# Altium footprint library V2.3.PcbLib: 43 footprints (part 2 of 3)
Each footprint in its own frame and in the unit in brackets; x right, y up, seen from the top. Pads: shape width x height; smd on the part's side, far side on the other; paste and mask are expansions set on the pad; w line width, h text height; cw(c..) or ccw(c..) is an arc to the next point about the centre after c.
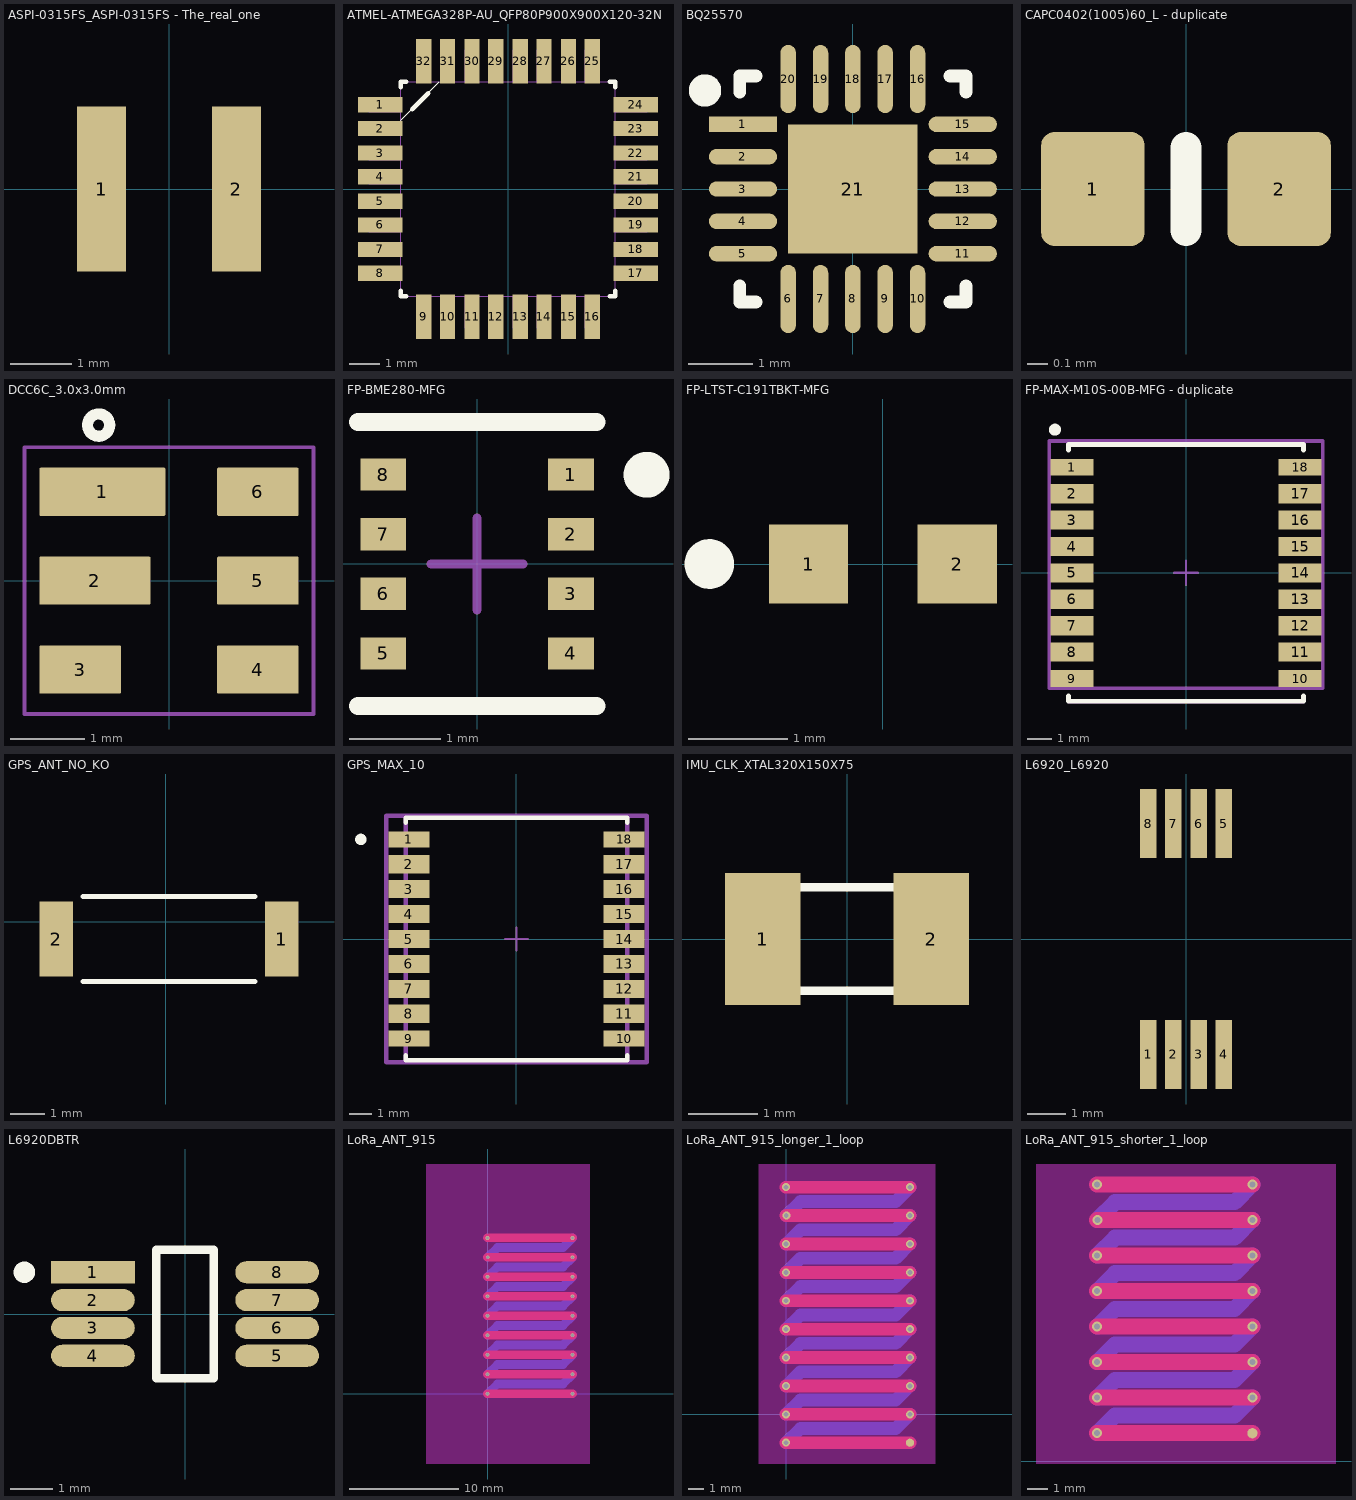
[diagram p1: the footprints below, top view; thin cyan lines are the x and y axes]

## ASPI-0315FS_ASPI-0315FS - The_real_one [mil]
pads (2):
  rect 31.5x106.3 smd: 1(-43.31,0) 2(43.31,0)
3D body "Inductor_L6920_ASPI-0315FS.STEP": height 29.53, standoff -29.53, extent -59.06,-59.06 59.06,59.06

## ATMEL-ATMEGA328P-AU_QFP80P900X900X120-32N [mil]
height 49.21
pads (32):
  rect 58x20 smd: 1(-167,110) 2(-167,79) 3(-167,47) 4(-167,16) 5(-167,-16) 6(-167,-47) 7(-167,-79) 8(-167,-110) 17(167,-110) 18(167,-79) 19(167,-47) 20(167,-16) 21(167,16) 22(167,47) 23(167,79) 24(167,110)
  rect 20x58 smd: 9(-110,-167) 10(-79,-167) 11(-47,-167) 12(-16,-167) 13(16,-167) 14(47,-167) 15(79,-167) 16(110,-167) 25(110,167) 26(79,167) 27(47,167) 28(16,167) 29(-16,167) 30(-47,167) 31(-79,167) 32(-110,167)
Top Overlay:
  lines w0: -140,90 -90,140
  lines w6: -140,-133 -140,-140 -133,-140 ; -140,133 -140,140 -133,140 ; -125,104 -104,125 ; 133,-140 140,-140 140,-133 ; 133,140 140,140 140,133
Top Courtyard:
  lines w0: -182,-119 -140,-119 -140,-101 -182,-101 -182,-119 ; -182,-88 -140,-88 -140,-70 -182,-70 -182,-88 ; -182,-56 -140,-56 -140,-38 -182,-38 -182,-56 ; -182,-25 -140,-25 -140,-7 -182,-7 -182,-25 ; -182,7 -140,7 -140,25 -182,25 -182,7 ; -182,38 -140,38 -140,56 -182,56 -182,38 ; -182,70 -140,70 -140,88 -182,88 -182,70 ; -182,101 -140,101 -140,119 -182,119 -182,101 ; -140,-140 -140,140 140,140 140,-140 -140,-140 ; -119,-182 -101,-182 -101,-140 -119,-140 -119,-182 ; -119,140 -119,182 -101,182 -101,140 -119,140 ; -88,-182 -70,-182 -70,-140 -88,-140 -88,-182 ; -88,140 -88,182 -70,182 -70,140 -88,140 ; -56,-182 -38,-182 -38,-140 -56,-140 -56,-182 ; -56,140 -56,182 -38,182 -38,140 -56,140 ; -25,-182 -7,-182 -7,-140 -25,-140 -25,-182 ; -25,140 -25,182 -7,182 -7,140 -25,140 ; 7,-182 25,-182 25,-140 7,-140 7,-182 ; 7,140 7,182 25,182 25,140 7,140 ; 38,-182 56,-182 56,-140 38,-140 38,-182 ; 38,140 38,182 56,182 56,140 38,140 ; 70,-182 88,-182 88,-140 70,-140 70,-182 ; 70,140 70,182 88,182 88,140 70,140 ; 101,-182 119,-182 119,-140 101,-140 101,-182 ; 101,140 101,182 119,182 119,140 101,140 ; 140,-119 182,-119 182,-101 140,-101 140,-119 ; 140,-88 182,-88 182,-70 140,-70 140,-88 ; 140,-56 182,-56 182,-38 140,-38 140,-56 ; 140,-25 182,-25 182,-7 140,-7 140,-25 ; 140,7 182,7 182,25 140,25 140,7 ; 140,38 182,38 182,56 140,56 140,38 ; 140,70 182,70 182,88 140,88 140,70 ; 140,101 182,101 182,119 140,119 140,101

## BQ25570 [mm] "BQ25570_CC"
pads (21):
  rect 1.057x0.239 smd paste+0 mask+0: 1(-1.701,1)
  rrect100% 1.057x0.239 smd paste+0 mask+0: 2(-1.701,0.5) 3(-1.701,0) 4(-1.701,-0.5) 5(-1.701,-1) 11(1.701,-1) 12(1.701,-0.5) 13(1.701,0) 14(1.701,0.5) 15(1.701,1)
  rrect100% 0.239x1.057 smd paste+0 mask+0: 6(-1,-1.701) 7(-0.5,-1.701) 8(0,-1.701) 9(0.5,-1.701) 10(1,-1.701) 16(1,1.701) 17(0.5,1.701) 18(0,1.701) 19(-0.5,1.701) 20(-1,1.701)
  rect 2x2 smd paste-1000 mask+0: 21(0,0)
Top Overlay:
  circle w0.25: c-2.286,1.524 r0.125
  lines w0.2: -1.75,-1.5 -1.75,-1.75 -1.5,-1.75 ; -1.75,1.5 -1.75,1.75 -1.5,1.75 ; 1.5,-1.75 1.75,-1.75 1.75,-1.5 ; 1.5,1.75 1.75,1.75 1.75,1.5
Top Paste:
  rectangle: -0.632,-0.632 0.632,0.632
Top Component Center:
  lines w0.1: -0.5,0 0.5,0 ; 0,-0.5 0,0.5
3D body "IC_Texas_Instruments_BQ25570RGRR_eec.STEP": height 0.25, standoff 0, extent -2.729,-2.729 2.729,2.729

## CAPC0402(1005)60_L - duplicate [mm] "Chip Capacitor, Body 1.0x0.5mm, Height 0.6mm, IPC High Density"
height 0.6
pads (2):
  rrect25% 0.5x0.55 smd: 1(-0.45,0) 2(0.45,0)
Top Overlay:
  lines w0.15: 0,-0.2 0,0.2

## DCC6C_3.0x3.0mm [mm] "DCC6C footprint, 3.0x3.0mm"
height 1.1
pads (6):
  rrect5% 1.7x0.65 smd mask+0.05: 1(-0.9,1.2)
  rrect5% 1.5x0.65 smd mask+0.05: 2(-1,0)
  rrect5% 1.1x0.65 smd mask+0.05: 3(-1.2,-1.2) 4(1.2,-1.2) 5(1.2,0) 6(1.2,1.2)
Top Overlay:
  circle w0.15: c-0.95,2.1 r0.15
Mechanical 15:
  lines w0.05: -1.95,-1.8 1.95,-1.8 1.95,1.8 -1.95,1.8 -1.95,-1.8
3D body: height 1, standoff 0, extent -1.5,-1.5 1.5,1.5

## FP-BME280-MFG [mm]
pads (8):
  rect 0.5x0.35 smd paste+0 mask+0: 1(1.025,0.975) 2(1.025,0.325) 3(1.025,-0.325) 4(1.025,-0.975) 5(-1.025,-0.975) 6(-1.025,-0.325) 7(-1.025,0.325) 8(-1.025,0.975)
Top Overlay:
  circle w0.25: c1.85,0.975 r0.125
  lines w0.2: -1.3,-1.55 1.3,-1.55 ; -1.3,1.55 1.3,1.55
Top Component Center:
  lines w0.1: -0.5,0 0.5,0 ; 0,-0.5 0,0.5
3D body "BME280.STEP": height 1, standoff 0, extent -1.25,-1.25 1.25,1.25

## FP-LTST-C191TBKT-MFG [mm]
pads (2):
  rect 0.8x0.8 smd paste+0 mask+0: 1(-0.75,0) 2(0.75,0)
Top Overlay:
  circle w0.25: c-1.75,0 r0.125

## FP-MAX-M10S-00B-MFG - duplicate [mm]
pads (18):
  rect 1.8x0.7 smd paste-1000 mask+0: 1(-4.75,4.4) 9(-4.75,-4.4) 10(4.75,-4.4) 18(4.75,4.4)
  rect 1.8x0.8 smd paste-1000 mask+0: 2(-4.75,3.3) 3(-4.75,2.2) 4(-4.75,1.1) 5(-4.75,0) 6(-4.75,-1.1) 7(-4.75,-2.2) 8(-4.75,-3.3) 11(4.75,-3.3) 12(4.75,-2.2) 13(4.75,-1.1) 14(4.75,0) 15(4.75,1.1) 16(4.75,2.2) 17(4.75,3.3)
Top Overlay:
  circle w0.25: c-5.461,5.969 r0.125
  lines w0.2: -4.9,-5.125 -4.9,-5.35 4.9,-5.35 4.9,-5.125 ; -4.9,5.125 -4.9,5.35 4.9,5.35 4.9,5.125
Top Paste:
  region: -6.25,4.05 -6.25,4.75 -4.85,4.75 -4.85,4.65 -3.95,4.65 -3.95,4.15 -4.85,4.15 -4.85,4.05
  region: -6.25,-4.75 -6.25,-4.05 -4.85,-4.05 -4.85,-4.15 -3.95,-4.15 -3.95,-4.65 -4.85,-4.65 -4.85,-4.75
  region: 6.25,-4.05 6.25,-4.75 4.85,-4.75 4.85,-4.65 3.95,-4.65 3.95,-4.15 4.85,-4.15 4.85,-4.05
  region: 6.25,4.75 6.25,4.05 4.85,4.05 4.85,4.15 3.95,4.15 3.95,4.65 4.85,4.65 4.85,4.75
  region: -6.25,2.9 -6.25,3.7 -4.85,3.7 -4.85,3.6 -3.95,3.6 -3.95,3 -4.85,3 -4.85,2.9
  region: -6.25,1.8 -6.25,2.6 -4.85,2.6 -4.85,2.5 -3.95,2.5 -3.95,1.9 -4.85,1.9 -4.85,1.8
  region: -6.25,0.7 -6.25,1.5 -4.85,1.5 -4.85,1.4 -3.95,1.4 -3.95,0.8 -4.85,0.8 -4.85,0.7
  region: -6.25,-0.4 -6.25,0.4 -4.85,0.4 -4.85,0.3 -3.95,0.3 -3.95,-0.3 -4.85,-0.3 -4.85,-0.4
  region: -6.25,-1.5 -6.25,-0.7 -4.85,-0.7 -4.85,-0.8 -3.95,-0.8 -3.95,-1.4 -4.85,-1.4 -4.85,-1.5
  region: -6.25,-2.6 -6.25,-1.8 -4.85,-1.8 -4.85,-1.9 -3.95,-1.9 -3.95,-2.5 -4.85,-2.5 -4.85,-2.6
  region: -6.25,-3.7 -6.25,-2.9 -4.85,-2.9 -4.85,-3 -3.95,-3 -3.95,-3.6 -4.85,-3.6 -4.85,-3.7
  region: 6.25,-2.9 6.25,-3.7 4.85,-3.7 4.85,-3.6 3.95,-3.6 3.95,-3 4.85,-3 4.85,-2.9
  region: 6.25,-1.8 6.25,-2.6 4.85,-2.6 4.85,-2.5 3.95,-2.5 3.95,-1.9 4.85,-1.9 4.85,-1.8
  region: 6.25,-0.7 6.25,-1.5 4.85,-1.5 4.85,-1.4 3.95,-1.4 3.95,-0.8 4.85,-0.8 4.85,-0.7
  region: 6.25,0.4 6.25,-0.4 4.85,-0.4 4.85,-0.3 3.95,-0.3 3.95,0.3 4.85,0.3 4.85,0.4
  region: 6.25,1.5 6.25,0.7 4.85,0.7 4.85,0.8 3.95,0.8 3.95,1.4 4.85,1.4 4.85,1.5
  region: 6.25,2.6 6.25,1.8 4.85,1.8 4.85,1.9 3.95,1.9 3.95,2.5 4.85,2.5 4.85,2.6
  region: 6.25,3.7 6.25,2.9 4.85,2.9 4.85,3 3.95,3 3.95,3.6 4.85,3.6 4.85,3.7
Top 3D Body:
  lines w0.2: -4.9,-5.35 4.9,-5.35 ; -4.9,5.35 4.9,5.35
Top Courtyard:
  lines w0.152: -5.7,-4.8 5.7,-4.8 5.7,5.5 -5.7,5.5 -5.7,-4.8
Top Component Center:
  lines w0.1: -0.5,0 0.5,0 ; 0,-0.5 0,0.5
3D body "MAX-M10S-00B.STEP": height 2.7, standoff 0, extent -4.85,-5.35 4.85,5.05

## GPS_ANT_NO_KO [mm]
height 1.25
pads (2):
  rect 0.963x2.16 smd paste+0 mask+0: 1(3.363,-0.5) 2(-3.163,-0.5)
Top Overlay:
  lines w0.152: -2.385,-1.732 2.585,-1.732 ; -2.385,0.732 2.585,0.732
Mechanical 13:
  circle w0: c3.236,-0.5 r0.076
3D body "GPS_Chip_Ant.step": height 0.89, standoff 0, extent -3.494,-1.605 3.694,0.605

## GPS_MAX_10 [mm]
pads (18):
  rect 1.8x0.7 smd paste-1000 mask+0: 1(-4.75,4.4) 9(-4.75,-4.4) 10(4.75,-4.4) 18(4.75,4.4)
  rect 1.8x0.8 smd paste-1000 mask+0: 2(-4.75,3.3) 3(-4.75,2.2) 4(-4.75,1.1) 5(-4.75,0) 6(-4.75,-1.1) 7(-4.75,-2.2) 8(-4.75,-3.3) 11(4.75,-3.3) 12(4.75,-2.2) 13(4.75,-1.1) 14(4.75,0) 15(4.75,1.1) 16(4.75,2.2) 17(4.75,3.3)
Top Overlay:
  circle w0.25: c-6.875,4.4 r0.125
  lines w0.2: -4.9,-5.125 -4.9,-5.35 4.9,-5.35 4.9,-5.125 ; -4.9,5.125 -4.9,5.35 4.9,5.35 4.9,5.125
Top Paste:
  region: -6.25,4.05 -6.25,4.75 -4.85,4.75 -4.85,4.65 -3.95,4.65 -3.95,4.15 -4.85,4.15 -4.85,4.05
  region: -6.25,-4.75 -6.25,-4.05 -4.85,-4.05 -4.85,-4.15 -3.95,-4.15 -3.95,-4.65 -4.85,-4.65 -4.85,-4.75
  region: 6.25,-4.05 6.25,-4.75 4.85,-4.75 4.85,-4.65 3.95,-4.65 3.95,-4.15 4.85,-4.15 4.85,-4.05
  region: 6.25,4.75 6.25,4.05 4.85,4.05 4.85,4.15 3.95,4.15 3.95,4.65 4.85,4.65 4.85,4.75
  region: -6.25,2.9 -6.25,3.7 -4.85,3.7 -4.85,3.6 -3.95,3.6 -3.95,3 -4.85,3 -4.85,2.9
  region: -6.25,1.8 -6.25,2.6 -4.85,2.6 -4.85,2.5 -3.95,2.5 -3.95,1.9 -4.85,1.9 -4.85,1.8
  region: -6.25,0.7 -6.25,1.5 -4.85,1.5 -4.85,1.4 -3.95,1.4 -3.95,0.8 -4.85,0.8 -4.85,0.7
  region: -6.25,-0.4 -6.25,0.4 -4.85,0.4 -4.85,0.3 -3.95,0.3 -3.95,-0.3 -4.85,-0.3 -4.85,-0.4
  region: -6.25,-1.5 -6.25,-0.7 -4.85,-0.7 -4.85,-0.8 -3.95,-0.8 -3.95,-1.4 -4.85,-1.4 -4.85,-1.5
  region: -6.25,-2.6 -6.25,-1.8 -4.85,-1.8 -4.85,-1.9 -3.95,-1.9 -3.95,-2.5 -4.85,-2.5 -4.85,-2.6
  region: -6.25,-3.7 -6.25,-2.9 -4.85,-2.9 -4.85,-3 -3.95,-3 -3.95,-3.6 -4.85,-3.6 -4.85,-3.7
  region: 6.25,-2.9 6.25,-3.7 4.85,-3.7 4.85,-3.6 3.95,-3.6 3.95,-3 4.85,-3 4.85,-2.9
  region: 6.25,-1.8 6.25,-2.6 4.85,-2.6 4.85,-2.5 3.95,-2.5 3.95,-1.9 4.85,-1.9 4.85,-1.8
  region: 6.25,-0.7 6.25,-1.5 4.85,-1.5 4.85,-1.4 3.95,-1.4 3.95,-0.8 4.85,-0.8 4.85,-0.7
  region: 6.25,0.4 6.25,-0.4 4.85,-0.4 4.85,-0.3 3.95,-0.3 3.95,0.3 4.85,0.3 4.85,0.4
  region: 6.25,1.5 6.25,0.7 4.85,0.7 4.85,0.8 3.95,0.8 3.95,1.4 4.85,1.4 4.85,1.5
  region: 6.25,2.6 6.25,1.8 4.85,1.8 4.85,1.9 3.95,1.9 3.95,2.5 4.85,2.5 4.85,2.6
  region: 6.25,3.7 6.25,2.9 4.85,2.9 4.85,3 3.95,3 3.95,3.6 4.85,3.6 4.85,3.7
Top 3D Body:
  lines w0.2: -4.9,-5.35 4.9,-5.35 4.9,5.35 -4.9,5.35 -4.9,-5.35
Top Courtyard:
  lines w0.2: -5.75,-5.45 5.75,-5.45 5.75,5.45 -5.75,5.45 -5.75,-5.45
Top Assembly:
  lines w0.2: -5.75,-5.45 5.75,-5.45 5.75,5.45 -5.75,5.45 -5.75,-5.45
  text ".Designator" at 0,0.189 h1
Top Component Center:
  lines w0.1: -0.5,0 0.5,0 ; 0,-0.5 0,0.5
3D body "UNK_u-blox_MAX-M10S-00B_eec.STEP": height 0.25, standoff 0, extent -5.75,-5.45 5.75,5.45

## IMU_CLK_XTAL320X150X75 [mil]
pads (2):
  rect 43x75 smd: 1(-48,0) 2(48,0)
Top Overlay:
  lines w5: -63,-29.5 63,-29.5 63,29.5 -63,29.5 -63,-29.5
3D body "step_temp.STEP": height 33.46, standoff 0, extent -62.99,-29.53 62.99,29.53

## L6920_L6920 [mm]
pads (8):
  rect 0.42x1.78 smd: 1(-0.975,-2.97) 2(-0.325,-2.97) 3(0.325,-2.97) 4(0.975,-2.97) 5(0.975,2.97) 6(0.325,2.97) 7(-0.325,2.97) 8(-0.975,2.97)

## L6920DBTR [mm]
pads (8):
  rect 1.954x0.516 smd paste+0 mask+0: 1(-2.15,0.975)
  rrect100% 1.954x0.516 smd paste+0 mask+0: 2(-2.15,0.325) 3(-2.15,-0.325) 4(-2.15,-0.975) 5(2.15,-0.975) 6(2.15,-0.325) 7(2.15,0.325) 8(2.15,0.975)
Top Overlay:
  circle w0.25: c-3.75,0.975 r0.125
  lines w0.2: -0.673,-1.5 -0.673,1.5 0.673,1.5 0.673,-1.5 -0.673,-1.5
3D body "L6920DBTR.STEP": height 1.1, standoff 0, extent -2.45,-1.5 2.45,1.5

## LoRa_ANT_915 [mm]
via 0,12.446 diameter 0.35 hole 0.28
via -0.022,14.224 diameter 0.35 hole 0.28
via 7.747,14.224 diameter 0.35 hole 0.28
via 7.747,12.446 diameter 0.35 hole 0.28
via -0.022,10.668 diameter 0.35 hole 0.28
via 7.747,10.668 diameter 0.35 hole 0.28
via -0.022,8.89 diameter 0.35 hole 0.28
via 7.747,8.89 diameter 0.35 hole 0.28
via -0.022,7.112 diameter 0.35 hole 0.28
via 7.747,7.112 diameter 0.35 hole 0.28
via -0.022,5.334 diameter 0.35 hole 0.28
via 7.747,5.334 diameter 0.35 hole 0.28
via -0.022,3.556 diameter 0.35 hole 0.28
via 7.747,3.556 diameter 0.35 hole 0.28
via -0.022,1.778 diameter 0.35 hole 0.28
via 7.747,1.778 diameter 0.35 hole 0.28
via -0.022,0 diameter 0.35 hole 0.28
via 7.747,0 diameter 0.35 hole 0.28
Top Layer:
  lines w0.8: -0.022,0 7.747,0 ; -0.022,1.778 7.747,1.778 ; -0.022,3.556 7.747,3.556 ; -0.022,5.334 7.747,5.334 ; -0.022,7.112 7.747,7.112 ; -0.022,8.89 7.747,8.89 ; -0.022,10.668 7.747,10.668 ; -0.022,12.446 7.747,12.446 ; -0.022,14.224 7.747,14.224
Bottom Layer:
  lines w0.254: -0.011,0 0,0 ; -0.011,1.778 0,1.778 ; -0.011,3.556 0,3.556 ; -0.011,5.334 0,5.334 ; -0.011,7.112 0,7.112 ; -0.011,8.89 0,8.89 ; -0.011,10.668 0,10.668 ; -0.011,12.446 0,12.446 ; -0.011,14.224 0,14.224
  lines w0.8: 0,0 0.889,0.889 6.858,0.889 7.747,1.778 ; 0,1.778 0.889,2.667 6.858,2.667 7.747,3.556 ; 0,3.556 0.889,4.445 6.858,4.445 7.747,5.334 ; 0,5.334 0.889,6.223 6.858,6.223 7.747,7.112 ; 0,7.112 0.889,8.001 6.858,8.001 7.747,8.89 ; 0,8.89 0.889,9.779 6.858,9.779 7.747,10.668 ; 0,10.668 0.889,11.557 6.858,11.557 7.747,12.446 ; 0,12.446 0.889,13.335 6.858,13.335 7.747,14.224
Top Solder:
  lines w0.85: 3.149,14.224 4.699,14.224
Keep-Out Layer:
  rectangle: -5.653,-6.412 9.347,20.961

## LoRa_ANT_915_longer_1_loop [mil]
pads (1):
  round 20 smd paste-99999 mask+4: ANT(304.96,-70.01)
via 0,490 diameter 19.68 hole 11.81
via -0.87,560 diameter 19.68 hole 11.81
via 305,560 diameter 19.68 hole 11.81
via 305,490 diameter 19.68 hole 11.81
via -0.87,420 diameter 19.68 hole 11.81
via 305,420 diameter 19.68 hole 11.81
via -0.87,350 diameter 19.68 hole 11.81
via 305,350 diameter 19.68 hole 11.81
via -0.87,280 diameter 19.68 hole 11.81
via 305,280 diameter 19.68 hole 11.81
via -0.87,210 diameter 19.68 hole 11.81
via 305,210 diameter 19.68 hole 11.81
via -0.87,140 diameter 19.68 hole 11.81
via 305,140 diameter 19.68 hole 11.81
via -0.87,70 diameter 19.68 hole 11.81
via 305,70 diameter 19.68 hole 11.81
via 305,0 diameter 19.68 hole 11.81
via -0.91,-70.01 diameter 19.68 hole 11.81
via -0.87,0 diameter 19.68 hole 11.81
Top Layer:
  lines w31.5: -0.91,-70.01 304.96,-70.01 ; -0.87,0 305,0 ; -0.87,70 305,70 ; -0.87,140 305,140 ; -0.87,210 305,210 ; -0.87,280 305,280 ; -0.87,350 305,350 ; -0.87,420 305,420 ; -0.87,490 305,490 ; -0.87,560 305,560
Bottom Layer:
  lines w10: -0.47,-70.01 -0.04,-70.01 ; -0.43,0 0,0 ; -0.43,70 0,70 ; -0.43,140 0,140 ; -0.43,210 0,210 ; -0.43,280 0,280 ; -0.43,350 0,350 ; -0.43,420 0,420 ; -0.43,490 0,490 ; -0.43,560 0,560
  lines w31.5: -0.04,-70.01 34.96,-35.01 269.96,-35.01 304.96,-0.01 ; 0,0 35,35 270,35 305,70 ; 0,70 35,105 270,105 305,140 ; 0,140 35,175 270,175 305,210 ; 0,210 35,245 270,245 305,280 ; 0,280 35,315 270,315 305,350 ; 0,350 35,385 270,385 305,420 ; 0,420 35,455 270,455 305,490 ; 0,490 35,525 270,525 305,560
Keep-Out Layer:
  rectangle: -68.7,-122.5 367.99,617.2

## LoRa_ANT_915_shorter_1_loop [mil]
pads (1):
  round 20 smd paste-99999 mask+0: ANT(-200,55)
via -200,475 diameter 19.68 hole 11.81
via -505.87,55 diameter 19.68 hole 11.81
via -200,125 diameter 19.68 hole 11.81
via -505.87,125 diameter 19.68 hole 11.81
via -200,195 diameter 19.68 hole 11.81
via -505.87,195 diameter 19.68 hole 11.81
via -200,265 diameter 19.68 hole 11.81
via -505.87,265 diameter 19.68 hole 11.81
via -200,335 diameter 19.68 hole 11.81
via -505.87,335 diameter 19.68 hole 11.81
via -200,405 diameter 19.68 hole 11.81
via -505.87,405 diameter 19.68 hole 11.81
via -200,545 diameter 19.68 hole 11.81
via -505.87,545 diameter 19.68 hole 11.81
via -505,475 diameter 19.68 hole 11.81
Top Layer:
  lines w31.5: -505.87,55 -200,55 ; -505.87,125 -200,125 ; -505.87,195 -200,195 ; -505.87,265 -200,265 ; -505.87,335 -200,335 ; -505.87,405 -200,405 ; -505.87,475 -200,475 ; -505.87,545 -200,545
Bottom Layer:
  lines w10: -505.43,55 -505,55 ; -505.43,125 -505,125 ; -505.43,195 -505,195 ; -505.43,265 -505,265 ; -505.43,335 -505,335 ; -505.43,405 -505,405 ; -505.43,475 -505,475 ; -505.43,545 -505,545
  lines w31.5: -505,55 -470,90 -235,90 -200,125 ; -505,125 -470,160 -235,160 -200,195 ; -505,195 -470,230 -235,230 -200,265 ; -505,265 -470,300 -235,300 -200,335 ; -505,335 -470,370 -235,370 -200,405 ; -505,405 -470,440 -235,440 -200,475 ; -505,475 -470,510 -235,510 -200,545
Keep-Out Layer:
  rectangle: -625.98,-5.55 -35.43,585